# EAGLE library part WAVESHAPER-V2.1 (library XM8)
Xonik waveshaper and sub-oscillator v2.1
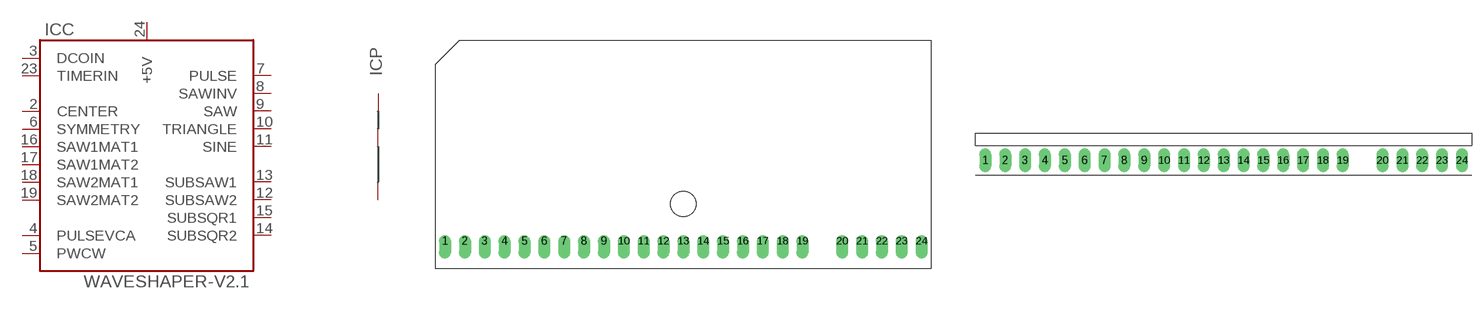
[diagram p10: symbol with the pads of XM8-WAVESHAPER-V2.1H; footprints XM8-WAVESHAPER-V2.1H, XM8-WAVESHAPER-V2.1V]

Designator prefix IC; gates C=XM8-WAVESHAPER-V2.1 P=XM8-PWR

## WAVESHAPER-V2.1H  [XM8-WAVESHAPER-V2.1H]
2  C:CENTER
3  C:DCOIN
4  C:PULSEVCA
5  C:PWCW
6  C:SYMMETRY
7  C:PULSE
8  C:SAWINV
9  C:SAW
10  C:TRIANGLE
11  C:SINE
12  C:SUBSAW2
13  C:SUBSAW1
14  C:SUBSQR2
15  C:SUBSQR1
16  C:SAW1MAT1
17  C:SAW1MAT2
18  C:SAW2MAT1
19  C:SAW2MAT2  in
20  P:+V  pwr
21  P:-V  pwr
22  P:AGND  pwr
23  C:TIMERIN
24  C:+5V  pwr

## WAVESHAPER-V2.1  [XM8-WAVESHAPER-V2.1V]
Pads as for XM8-WAVESHAPER-V2.1H

## Footprint XM8-WAVESHAPER-V2.1H (pad centres in mm)
Xonik Waveshaper and Sub-oscillator v2.1, horizontal mount
drill 1.016 offset: 1 -30.48,0; 2 -27.94,0; 3 -25.4,0; 4 -22.86,0; 5 -20.32,0; 6 -17.78,0; 7 -15.24,0; 8 -12.7,0; 9 -10.16,0; 10 -7.62,0; 11 -5.08,0; 12 -2.54,0; 13 0,0; 14 2.54,0; 15 5.08,0; 16 7.62,0; 17 10.16,0; 18 12.7,0; 19 15.24,0; 20 20.32,0; 21 22.86,0; 22 25.4,0; 23 27.94,0; 24 30.48,0
hole 3.2 at 0,4.763

## Footprint XM8-WAVESHAPER-V2.1V (pad centres in mm)
Xonik Waveshaper and Sub-oscillator v2.1, vertical mount
drill 1.016 long: 1 -30.48,0; 2 -27.94,0; 3 -25.4,0; 4 -22.86,0; 5 -20.32,0; 6 -17.78,0; 7 -15.24,0; 8 -12.7,0; 9 -10.16,0; 10 -7.62,0; 11 -5.08,0; 12 -2.54,0; 13 0,0; 14 2.54,0; 15 5.08,0; 16 7.62,0; 17 10.16,0; 18 12.7,0; 19 15.24,0; 20 20.32,0; 21 22.86,0; 22 25.4,0; 23 27.94,0; 24 30.48,0